# Altium schematic symbol library SnapEDAsch.SchLib: 1 symbol
Pins are listed as number, name and electrical type; pins without a type are passive.

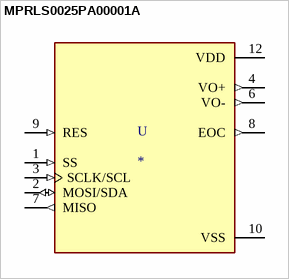
[diagram p0: symbol MPRLS0025PA00001A]

## MPRLS0025PA00001A
designator U
Pressure Sensor 25PSI _172.37kPa_ Absolute Male - 0.1 _2.5mm_ Tube 24 b 12-SMD Module; MP: MPRLS0025PA00001A; MF: Honeywell Sensing; SnapEDA_Link: https://www.snapeda.com/parts/MPRLS0025PA00001A/Honeywell%20Sensing%20and%20Productivity%20Solutions/view-part/2772767/?ref=snap; Digi-Key_Part_Number: 480-7098-1-ND; Package: SMD-10 Honeywell; Value: *
footprint XDCR_MPRLS0025PA00001A
pins: 1 SS (in), 2 MOSI/SDA (io), 3 SCLK/SCL (in), 4 VO+ (out), 6 VO- (out), 7 MISO (out), 8 EOC (out), 9 RES (in), 10 VSS (power), 12 VDD (power)